# EAGLE library part MSP430F2272 (library tmxk)
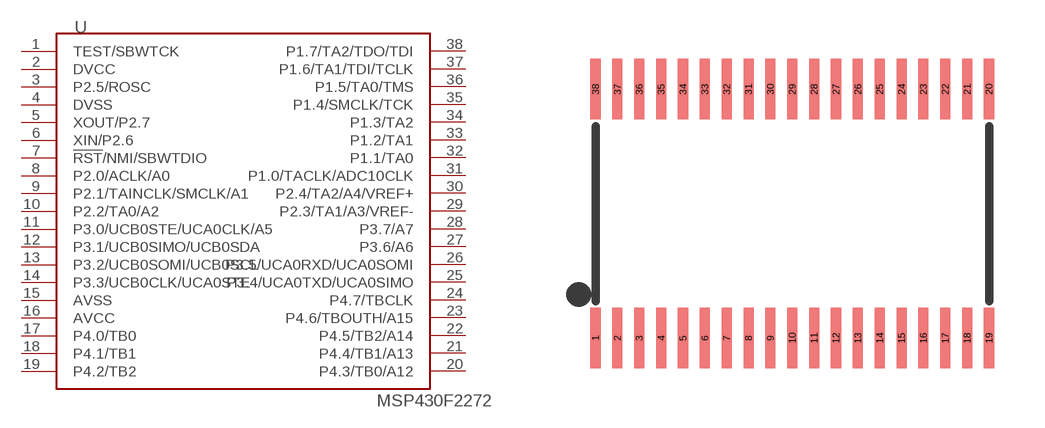
[diagram p18: symbol with the pads of TSSOP38; footprint TSSOP38]

Designator prefix U

## MSP430F2272  [TSSOP38]
1  TEST/SBWTCK
2  DVCC
3  P2.5/ROSC
4  DVSS
5  XOUT/P2.7
6  XIN/P2.6
7  !RST!/NMI/SBWTDIO
8  P2.0/ACLK/A0
9  P2.1/TAINCLK/SMCLK/A1
10  P2.2/TA0/A2
11  P3.0/UCB0STE/UCA0CLK/A5
12  P3.1/UCB0SIMO/UCB0SDA
13  P3.2/UCB0SOMI/UCB0SCL
14  P3.3/UCB0CLK/UCA0STE
15  AVSS
16  AVCC
17  P4.0/TB0
18  P4.1/TB1
19  P4.2/TB2
20  P4.3/TB0/A12
21  P4.4/TB1/A13
22  P4.5/TB2/A14
23  P4.6/TBOUTH/A15
24  P4.7/TBCLK
25  P3.4/UCA0TXD/UCA0SIMO
26  P3.5/UCA0RXD/UCA0SOMI
27  P3.6/A6
28  P3.7/A7
29  P2.3/TA1/A3/VREF-
30  P2.4/TA2/A4/VREF+
31  P1.0/TACLK/ADC10CLK
32  P1.1/TA0
33  P1.2/TA1
34  P1.3/TA2
35  P1.4/SMCLK/TCK
36  P1.5/TA0/TMS
37  P1.6/TA1/TDI/TCLK
38  P1.7/TA2/TDO/TDI

## Footprint TSSOP38 (pad centres in mm)
38-Lead Thin Shrink Small Outline Package [TSSOP] RU-38 Source: http://www.analog.com/UploadedFiles/Packages/415413609854197792024125RU38.pdf COMPLIANT TO JEDEC STANDARDS MS-153BD-1
smd 0.3 x 1.8: 1 -6.35,-3.81; 2 -5.7,-3.81; 3 -5.05,-3.81; 4 -4.4,-3.81; 5 -3.75,-3.81; 6 -3.1,-3.81; 7 -2.45,-3.81; 8 -1.8,-3.81; 9 -1.15,-3.81; 10 -0.5,-3.81; 11 0.15,-3.81; 12 0.8,-3.81; 13 1.45,-3.81; 14 2.1,-3.81; 15 2.75,-3.81; 16 3.4,-3.81; 17 4.05,-3.81; 18 4.7,-3.81; 19 5.35,-3.81; 20 5.35,3.59; 21 4.7,3.59; 22 4.05,3.59; 23 3.4,3.59; 24 2.75,3.59; 25 2.1,3.59; 26 1.45,3.59; 27 0.8,3.59; 28 0.15,3.59; 29 -0.5,3.59; 30 -1.15,3.59; 31 -1.8,3.59; 32 -2.45,3.59; 33 -3.1,3.59; 34 -3.75,3.59; 35 -4.4,3.59; 36 -5.05,3.59; 37 -5.7,3.59; 38 -6.35,3.59